# EAGLE library part XR-2206 (library ic)
Function Generator https://media.digikey.com/pdf/Data%20Sheets/MaxLinear%20PDFs/XR-2206-11-12_Man.pdf https://www.digikey.com/product-detail/en/maxlinear-inc/XR2206CP-F/1016-1305-5-ND/2411237
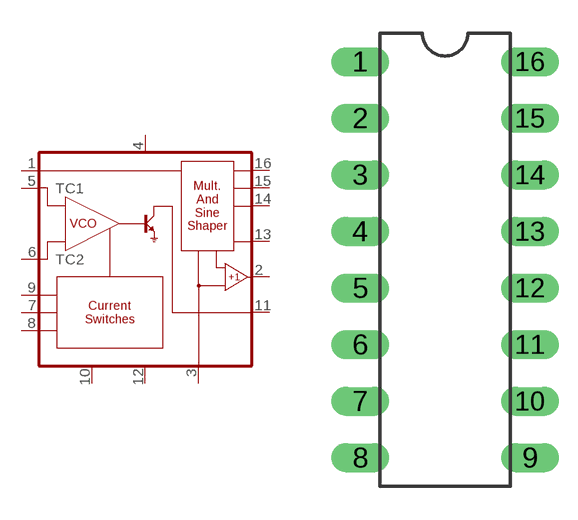
[diagram p43: symbol with the pads of DIL16; footprint DIL16]

Designator prefix -

## XR-2206  [DIL16]
1  AMSI  pas
2  STO  pas
3  MO  pas
4  VCC  pwr
5  TC1  pas
6  TC2  pas
7  TR1  pas
8  TR2  pas
9  FSKI  pas
10  BIAS  pas
11  SYNCO  pas
12  GND  pwr
13  WAVEA1  pas
14  WAVEA2  pas
15  SYMA1  pas
16  SYMA2  pas

## Footprint DIL16 (pad centres in mm)
drill 0.8 pad 1.27 long: 1 -3.81,8.89; 2 -3.81,6.35; 3 -3.81,3.81; 4 -3.81,1.27; 5 -3.81,-1.27; 6 -3.81,-3.81; 7 -3.81,-6.35; 8 -3.81,-8.89; 9 3.81,-8.89; 10 3.81,-6.35; 11 3.81,-3.81; 12 3.81,-1.27; 13 3.81,1.27; 14 3.81,3.81; 15 3.81,6.35; 16 3.81,8.89